# Altium schematic symbol library SCH - CONNECTORS - GENERIC - PINHEADER_2x1_SMD.SCHLIB: 1 symbol
Pins are listed as number, name and electrical type; pins without a type are passive.

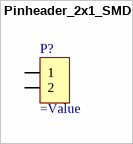
[diagram p0: symbol Pinheader_2x1_SMD]

## Pinheader_2x1_SMD
designator P?
SMD-Header, 2-Pin
pins: 1, 2